# EAGLE library part STM32F071V8H6 (library circuit_tree)
IC
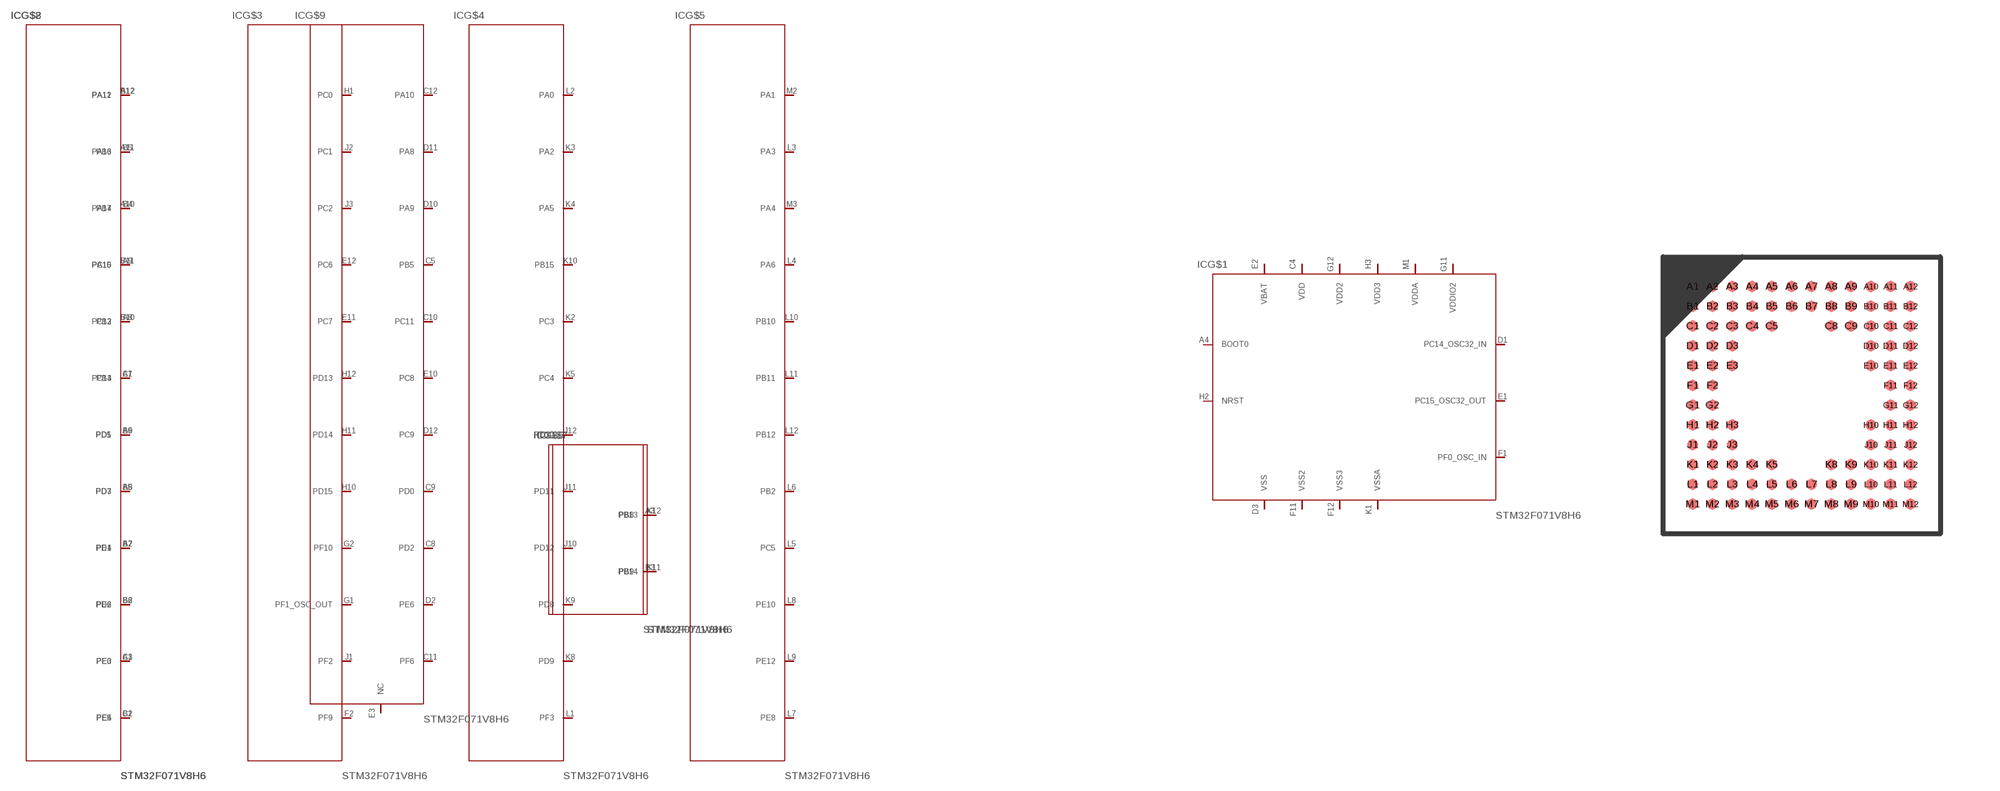
[diagram p3: symbol with the pads of UFBGA100; footprint UFBGA100]

Designator prefix IC; gates G$1=STM32F071V8H6 G$2=STM32F071V8H62 G$3=STM32F071V8H63 G$4=STM32F071V8H64 G$5=STM32F071V8H65 G$6=STM32F071V8H66 G$7=STM32F071V8H67 G$8=STM32F071V8H68 G$9=STM32F071V8H69

## STM32F071V8H6  [UFBGA100]
A1  G$2:PE3  pas
A2  G$2:PE1  pas
A3  G$6:PB8  pas
A4  G$1:BOOT0  pas
A5  G$2:PD7  pas
A6  G$2:PD5  pas
A7  G$2:PB4  pas
A8  G$2:PB3  pas
A9  G$2:PA15  pas
A10  G$2:PA14  pas
A11  G$2:PA13  pas
A12  G$2:PA12  pas
B1  G$2:PE4  pas
B2  G$2:PE2  pas
B3  G$6:PB9  pas
B4  G$8:PB7  pas
B5  G$8:PB6  pas
B6  G$8:PD6  pas
B7  G$8:PD4  pas
B8  G$8:PD3  pas
B9  G$8:PD1  pas
B10  G$8:PC12  pas
B11  G$8:PC10  pas
B12  G$8:PA11  pas
C1  G$8:PC13  pas
C2  G$8:PE5  pas
C3  G$8:PE0  pas
C4  G$1:VDD  pas
C5  G$9:PB5  pas
C8  G$9:PD2  pas
C9  G$9:PD0  pas
C10  G$9:PC11  pas
C11  G$9:PF6  pas
C12  G$9:PA10  pas
D1  G$1:PC14_OSC32_IN  pas
D2  G$9:PE6  pas
D3  G$1:VSS  pas
D10  G$9:PA9  pas
D11  G$9:PA8  pas
D12  G$9:PC9  pas
E1  G$1:PC15_OSC32_OUT  pas
E2  G$1:VBAT  pas
E3  G$9:NC  pas
E10  G$9:PC8  pas
E11  G$3:PC7  pas
E12  G$3:PC6  pas
F1  G$1:PF0_OSC_IN  pas
F2  G$3:PF9  pas
F11  G$1:VSS2  pas
F12  G$1:VSS3  pas
G1  G$3:PF1_OSC_OUT  pas
G2  G$3:PF10  pas
G11  G$1:VDDIO2  pas
G12  G$1:VDD2  pas
H1  G$3:PC0  pas
H2  G$1:NRST  pas
H3  G$1:VDD3  pas
H10  G$3:PD15  pas
H11  G$3:PD14  pas
H12  G$3:PD13  pas
J1  G$3:PF2  pas
J2  G$3:PC1  pas
J3  G$3:PC2  pas
J10  G$4:PD12  pas
J11  G$4:PD11  pas
J12  G$4:PD10  pas
K1  G$1:VSSA  pas
K2  G$4:PC3  pas
K3  G$4:PA2  pas
K4  G$4:PA5  pas
K5  G$4:PC4  pas
K8  G$4:PD9  pas
K9  G$4:PD8  pas
K10  G$4:PB15  pas
K11  G$7:PB14  pas
K12  G$7:PB13  pas
L1  G$4:PF3  pas
L2  G$4:PA0  pas
L3  G$5:PA3  pas
L4  G$5:PA6  pas
L5  G$5:PC5  pas
L6  G$5:PB2  pas
L7  G$5:PE8  pas
L8  G$5:PE10  pas
L9  G$5:PE12  pas
L10  G$5:PB10  pas
L11  G$5:PB11  pas
L12  G$5:PB12  pas
M1  G$1:VDDA  pas
M2  G$5:PA1  pas
M3  G$5:PA4  pas

## Footprint UFBGA100 (pad centres in mm)
UFBGA100 7 x 7 mm, 12 x 12-pin ultra fine 0.5 mm pitch ball grid array package
smd 0.28 x 0.28: A1 -2.75,2.75; A2 -2.25,2.75; A3 -1.75,2.75; A4 -1.25,2.75; A5 -0.75,2.75; A6 -0.25,2.75; A7 0.25,2.75; A8 0.75,2.75; A9 1.25,2.75; A10 1.75,2.75; A11 2.25,2.75; A12 2.75,2.75; B1 -2.75,2.25; B2 -2.25,2.25; B3 -1.75,2.25; B4 -1.25,2.25; B5 -0.75,2.25; B6 -0.25,2.25; B7 0.25,2.25; B8 0.75,2.25; B9 1.25,2.25; B10 1.75,2.25; B11 2.25,2.25; B12 2.75,2.25; C1 -2.75,1.75; C2 -2.25,1.75; C3 -1.75,1.75; C4 -1.25,1.75; C5 -0.75,1.75; C8 0.75,1.75; C9 1.25,1.75; C10 1.75,1.75; C11 2.25,1.75; C12 2.75,1.75; D1 -2.75,1.25; D2 -2.25,1.25; D3 -1.75,1.25; D10 1.75,1.25; D11 2.25,1.25; D12 2.75,1.25; E1 -2.75,0.75; E2 -2.25,0.75; E3 -1.75,0.75; E10 1.75,0.75; E11 2.25,0.75; E12 2.75,0.75; F1 -2.75,0.25; F2 -2.25,0.25; F11 2.25,0.25; F12 2.75,0.25; G1 -2.75,-0.25; G2 -2.25,-0.25; G11 2.25,-0.25; G12 2.75,-0.25; H1 -2.75,-0.75; H2 -2.25,-0.75; H3 -1.75,-0.75; H10 1.75,-0.75; H11 2.25,-0.75; H12 2.75,-0.75; J1 -2.75,-1.25; J2 -2.25,-1.25; J3 -1.75,-1.25; J10 1.75,-1.25; J11 2.25,-1.25; J12 2.75,-1.25; K1 -2.75,-1.75; K2 -2.25,-1.75; K3 -1.75,-1.75; K4 -1.25,-1.75; K5 -0.75,-1.75; K8 0.75,-1.75; K9 1.25,-1.75; K10 1.75,-1.75; K11 2.25,-1.75; K12 2.75,-1.75; L1 -2.75,-2.25; L2 -2.25,-2.25; L3 -1.75,-2.25; L4 -1.25,-2.25; L5 -0.75,-2.25; L6 -0.25,-2.25; L7 0.25,-2.25; L8 0.75,-2.25; L9 1.25,-2.25; L10 1.75,-2.25; L11 2.25,-2.25; L12 2.75,-2.25; M1 -2.75,-2.75; M2 -2.25,-2.75; M3 -1.75,-2.75; M4 -1.25,-2.75; M5 -0.75,-2.75; M6 -0.25,-2.75; M7 0.25,-2.75; M8 0.75,-2.75; M9 1.25,-2.75; M10 1.75,-2.75; M11 2.25,-2.75; M12 2.75,-2.75